# EAGLE library part 615012143921 (library USB_c_conn)
WR-MJ Horizontal Plastic Dual Port 6P6C Modular Jack Tab Up, 12 pins=>Code : Con_I-O_MJ-H_Plastic_Up_615012143921 <http://katalog.we-online.de/media/images/eican/Con_I-O_MJ-H_Plastic_Up_615012143921_pf2.jpg> Details see: http://katalog.we-online.de/en/em/MJ_THT_HORIZONTAL_PLASTIC_DUAL_PORT_6P6C_TAB_UP Created 2014-07-10, Karrer Zheng 2014 (C) Würth Elektronik
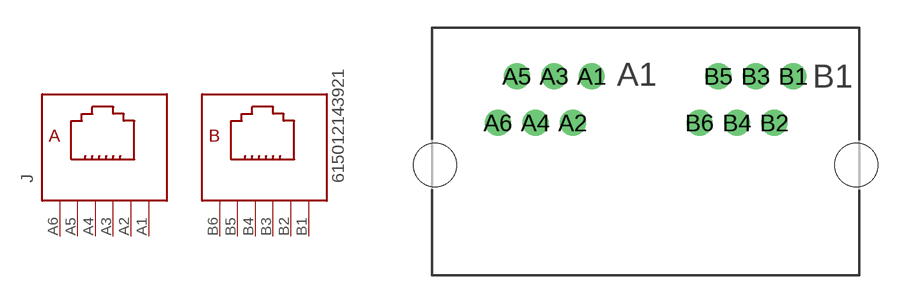
[diagram p122: symbol with the pads of 615012143921; footprint 615012143921]

Designator prefix J

## 615012143921  [615012143921]
A1  A1  pas
A2  A2  pas
A3  A3  pas
A4  A4  pas
A5  A5  pas
A6  A6  pas
B1  B1  pas
B2  B2  pas
B3  B3  pas
B4  B4  pas
B5  B5  pas
B6  B6  pas

## Footprint 615012143921 (pad centres in mm)
WR-MJ Horizontal Plastic Dual Port 6P6C Modular Jack Tab Up, 12 pins
drill 0.9: A1 -2.95,1.27; A2 -3.97,-1.27; A3 -4.99,1.27; A4 -6.01,-1.27; A5 -7.03,1.27; A6 -8.05,-1.27; B1 8.05,1.27; B2 7.03,-1.27; B3 6.01,1.27; B4 4.99,-1.27; B5 3.97,1.27; B6 2.95,-1.27
hole 2.36 at -11.5,-3.57
hole 2.36 at 11.5,-3.57